# Altium schematic symbol library CAP,Cer,1uF,25V,X7R,0805.Schlib: 1 symbol
Pins are listed as number, name and electrical type; pins without a type are passive.

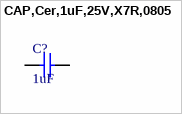
[diagram p0: symbol CAP,Cer,1uF,25V,X7R,0805]

## CAP,Cer,1uF,25V,X7R,0805
designator C?, comment 1uF
CAP CER 1UF 25V X7R 0805
pins: 1, 2